# EAGLE library part MKDS06 (library con-phoenix-508)
Screw Connector
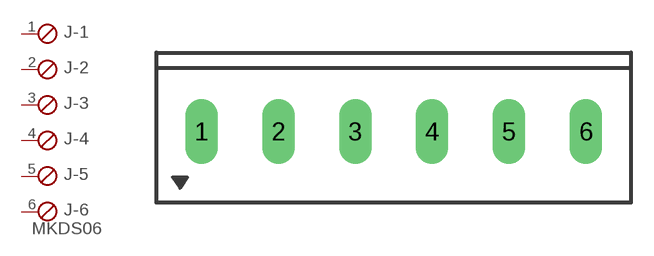
[diagram p65: symbol with the pads of MKDS06; footprint MKDS06]

Designator prefix J; gates -1=STB -2=STB -3=STB -4=STB -5=STB -6=STBV

## MKDS06  [MKDS06]
1  -1:1  pas
2  -2:1  pas
3  -3:1  pas
4  -4:1  pas
5  -5:1  pas
6  -6:1  pas

## Footprint MKDS06 (pad centres in mm)
MKDS 5.08 mm pitch
drill 1.422 long: 1 -12.7,0; 2 -7.62,0; 3 -2.54,0; 4 2.54,0; 5 7.62,0; 6 12.7,0